# EAGLE library part REGULATOR-TI-LM317LCPW (library Pygmy)
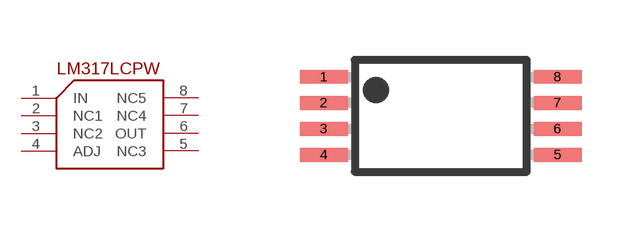
[diagram p55: symbol with the pads of TSSOP8; footprint TSSOP8]

Designator prefix -

## REGULATOR-TI-LM317LCPW  [TSSOP8]
1  IN
2  NC1
3  NC2
4  ADJ
5  NC3
6  OUT
7  NC4
8  NC5

## Footprint TSSOP8 (pad centres in mm)
Plastic Small Outline
smd 1.2 x 0.35: 1 -2.925,0.975; 2 -2.925,0.325; 3 -2.925,-0.325; 4 -2.925,-0.975; 5 2.925,-0.975; 6 2.925,-0.325; 7 2.925,0.325; 8 2.925,0.975